# Altium footprint library 2020-01-08_15-19-45.PcbLib: 3 footprints
Each footprint in its own frame and in the unit in brackets; x right, y up, seen from the top. Pads: shape width x height; smd on the part's side, far side on the other; paste and mask are expansions set on the pad; w line width, h text height; cw(c..) or ccw(c..) is an arc to the next point about the centre after c.
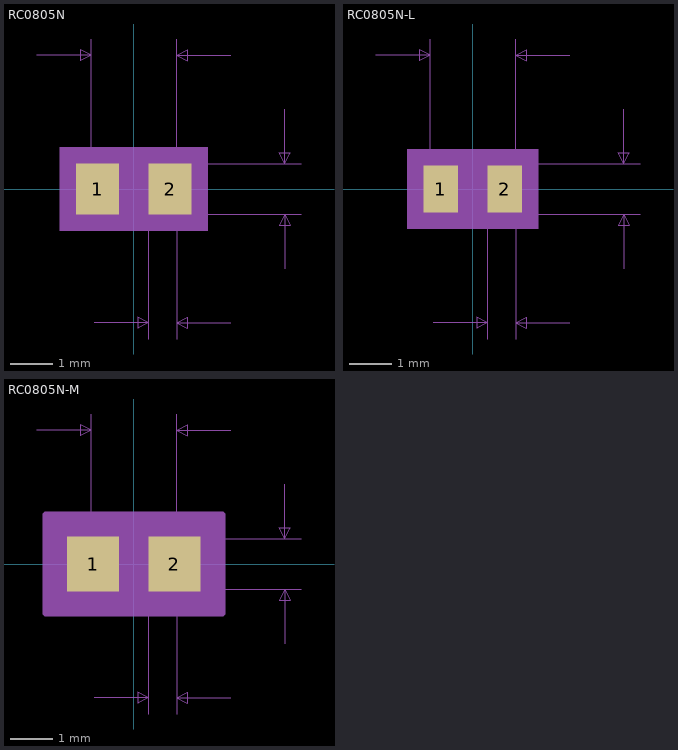
[diagram p0: the footprints below, top view; thin cyan lines are the x and y axes]

## RC0805N [mil]
pads (2):
  rect 40x47 smd: 1(-33.5,0) 2(33.5,0)
Mechanical 5:
  region: 68.5,-38.5 -68.5,-38.5 -68.5,38.5 68.5,38.5
Mechanical 7:
  lines w1: -89.5,123.5 -39.5,123.5 ; -39.5,0 -39.5,138.5 ; -36.5,-123.5 13.5,-123.5 ; 0,-23.5 154.5,-23.5 ; 0,23.5 154.5,23.5 ; 13.5,-138.5 13.5,0 ; 39.5,-138.5 39.5,0 39.5,138.5 ; 89.5,-123.5 39.5,-123.5 ; 89.5,123.5 39.5,123.5 ; 139.5,-73.5 139.5,-23.5 ; 139.5,73.5 139.5,23.5 ; -39.5,123.5 -49.5,128.5 -49.5,118.5 -39.5,123.5 ; 13.5,-123.5 3.5,-118.5 3.5,-128.5 13.5,-123.5 ; 39.5,-123.5 49.5,-118.5 49.5,-128.5 39.5,-123.5 ; 39.5,123.5 49.5,128.5 49.5,118.5 39.5,123.5 ; 139.5,-23.5 134.5,-33.5 144.5,-33.5 139.5,-23.5 ; 139.5,23.5 134.5,33.5 144.5,33.5 139.5,23.5
  text "Default Padstyle: RX40Y47D0T" at -350,-293.5 h50
  text "Alternate 1 Padstyle: OX60Y90D30P" at -412.5,-393.5 h50
  text "Alternate 2 Padstyle: OX90Y60D30P" at -412.5,-493.5 h50
  text "0.047in/1.194mm" at 159.5,-12.5 h25
  text "0.079in/2.007mm" at -93.75,143.5 h25
  text "0.026in/0.66mm" at -61,-168.5 h25
Mechanical 13:
  lines w1: -39.5,-23.5 -39.5,23.5 ; -39.5,-23.5 -13.5,-23.5 -13.5,23.5 -39.5,23.5 ; -39.5,-23.5 39.5,-23.5 ; -39.5,-23.5 -39.5,23.5 ; -39.5,23.5 39.5,23.5 ; 39.5,-23.5 13.5,-23.5 13.5,23.5 39.5,23.5 ; 39.5,-23.5 39.5,23.5 ; 39.5,-23.5 39.5,23.5
Mechanical 15:
  region: 63.5,-33.5 -63.5,-33.5 -63.5,33.5 63.5,33.5
  lines w6: -63.5,-33.5 -63.5,33.5 63.5,33.5 63.5,-33.5 -63.5,-33.5
3D body: height 10, standoff 0, extent 0,0 10,10

## RC0805N-L [mil]
pads (2):
  rect 32x43 smd paste+0 mask+0: 1(-29.5,0) 2(29.5,0)
Mechanical 5:
  region: 60.5,-36.5 -60.5,-36.5 -60.5,36.5 60.5,36.5
Mechanical 7:
  lines w1: -89.5,123.5 -39.5,123.5 ; -39.5,0 -39.5,138.5 ; -36.5,-123.5 13.5,-123.5 ; 0,-23.5 154.5,-23.5 ; 0,23.5 154.5,23.5 ; 13.5,-138.5 13.5,0 ; 39.5,-138.5 39.5,0 39.5,138.5 ; 89.5,-123.5 39.5,-123.5 ; 89.5,123.5 39.5,123.5 ; 139.5,-73.5 139.5,-23.5 ; 139.5,73.5 139.5,23.5 ; -39.5,123.5 -49.5,128.5 -49.5,118.5 -39.5,123.5 ; 13.5,-123.5 3.5,-118.5 3.5,-128.5 13.5,-123.5 ; 39.5,-123.5 49.5,-118.5 49.5,-128.5 39.5,-123.5 ; 39.5,123.5 49.5,128.5 49.5,118.5 39.5,123.5 ; 139.5,-23.5 134.5,-33.5 144.5,-33.5 139.5,-23.5 ; 139.5,23.5 134.5,33.5 144.5,33.5 139.5,23.5
  text "Default Padstyle: RX32Y43D0T" at -350,-291.5 h50
  text "Alternate 1 Padstyle: OX60Y90D30P" at -412.5,-391.5 h50
  text "Alternate 2 Padstyle: OX90Y60D30P" at -412.5,-491.5 h50
  text "0.047in/1.194mm" at 159.5,-12.5 h25
  text "0.079in/2.007mm" at -93.75,143.5 h25
  text "0.026in/0.66mm" at -61,-168.5 h25
Mechanical 13:
  lines w1: -39.5,-23.5 -39.5,23.5 ; -39.5,-23.5 -13.5,-23.5 -13.5,23.5 -39.5,23.5 ; -39.5,-23.5 39.5,-23.5 ; -39.5,-23.5 -39.5,23.5 ; -39.5,23.5 39.5,23.5 ; 39.5,-23.5 13.5,-23.5 13.5,23.5 39.5,23.5 ; 39.5,-23.5 39.5,23.5 ; 39.5,-23.5 39.5,23.5
Mechanical 15:
  region: 49.5,-25.5 -49.5,-25.5 -49.5,25.5 49.5,25.5
  lines w6: -49.5,-25.5 -49.5,25.5 49.5,25.5 49.5,-25.5 -49.5,-25.5
3D body: height 10, standoff 0, extent 0,0 10,10

## RC0805N-M [mil]
pads (2):
  rect 48x51 smd paste+0 mask+0: 1(-37.5,0) 2(37.5,0)
Mechanical 5:
  region: 76.5,-40.5 -76.5,-40.5 -76.5,40.5 76.5,40.5
Mechanical 7:
  lines w1: -89.5,123.5 -39.5,123.5 ; -39.5,0 -39.5,138.5 ; -36.5,-123.5 13.5,-123.5 ; 0,-23.5 154.5,-23.5 ; 0,23.5 154.5,23.5 ; 13.5,-138.5 13.5,0 ; 39.5,-138.5 39.5,0 39.5,138.5 ; 89.5,-123.5 39.5,-123.5 ; 89.5,123.5 39.5,123.5 ; 139.5,-73.5 139.5,-23.5 ; 139.5,73.5 139.5,23.5 ; -39.5,123.5 -49.5,128.5 -49.5,118.5 -39.5,123.5 ; 13.5,-123.5 3.5,-118.5 3.5,-128.5 13.5,-123.5 ; 39.5,-123.5 49.5,-118.5 49.5,-128.5 39.5,-123.5 ; 39.5,123.5 49.5,128.5 49.5,118.5 39.5,123.5 ; 139.5,-23.5 134.5,-33.5 144.5,-33.5 139.5,-23.5 ; 139.5,23.5 134.5,33.5 144.5,33.5 139.5,23.5
  text "Default Padstyle: RX48Y51D0T" at -350,-295.5 h50
  text "Alternate 1 Padstyle: OX60Y90D30P" at -412.5,-395.5 h50
  text "Alternate 2 Padstyle: OX90Y60D30P" at -412.5,-495.5 h50
  text "0.047in/1.194mm" at 159.5,-12.5 h25
  text "0.079in/2.007mm" at -93.75,143.5 h25
  text "0.026in/0.66mm" at -61,-168.5 h25
Mechanical 13:
  lines w1: -39.5,-23.5 -39.5,23.5 ; -39.5,-23.5 -13.5,-23.5 -13.5,23.5 -39.5,23.5 ; -39.5,-23.5 39.5,-23.5 ; -39.5,-23.5 -39.5,23.5 ; -39.5,23.5 39.5,23.5 ; 39.5,-23.5 13.5,-23.5 13.5,23.5 39.5,23.5 ; 39.5,-23.5 39.5,23.5 ; 39.5,-23.5 39.5,23.5
Mechanical 15:
  region: 81.5,-45.5 -81.5,-45.5 -81.5,45.5 81.5,45.5
  lines w6: -81.5,-45.5 -81.5,45.5 81.5,45.5 81.5,-45.5 -81.5,-45.5
3D body: height 10, standoff 0, extent 0,0 10,10